# EAGLE library part BORNE-5-350-DUAL (library JLB6_Connec)
borne phoenixcontact 5 points a 3,5mm 186-1962
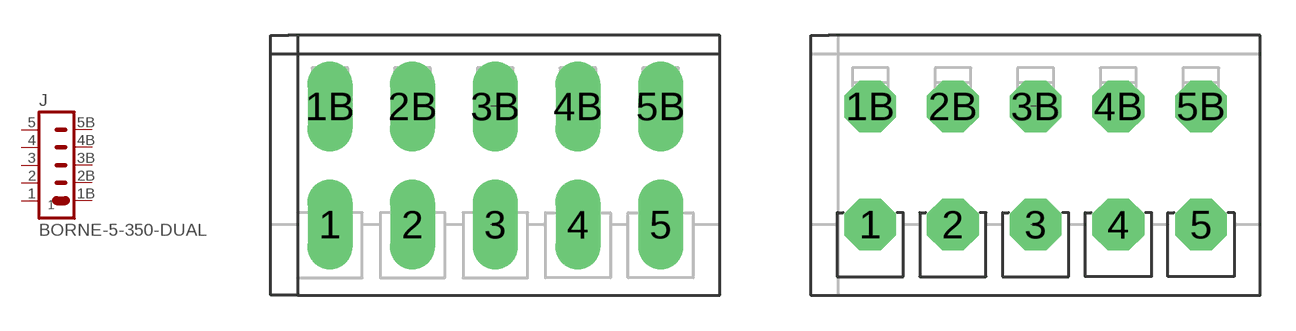
[diagram p52: symbol with the pads of BORNE-PHOENIX-5-350; footprints BORNE-PHOENIX-5-350, BORNE-PHOENIX-5-350-2]

Designator prefix J

## BORNE-5-350-DUAL1  [BORNE-PHOENIX-5-350]
1  1  pas
1B  1B  pas
2  2  pas
2B  2B  pas
3  3  pas
3B  3B  pas
4  4  pas
4B  4B  pas
5  5  pas
5B  5B  pas

## BORNE-5-350-DUAL2  [BORNE-PHOENIX-5-350-2]
Pads as for BORNE-PHOENIX-5-350

## BORNE-5-350-DUALMETZ  [BORNE-METZ-5-350-2]
Pads as for BORNE-PHOENIX-5-350

## Footprint BORNE-PHOENIX-5-350 (pad centres in mm)
drill 1.1 pad 1.905 long: 1 -7,-2.5; 1B -7,2.5; 2 -3.5,-2.5; 2B -3.5,2.5; 3 0,-2.5; 3B 0,2.5; 4 3.5,-2.5; 4B 3.5,2.5; 5 7,-2.5; 5B 7,2.5

## Footprint BORNE-PHOENIX-5-350-2 (pad centres in mm)
drill 1.1 pad 2.184 octagon: 1 -7,-2.5; 1B -7,2.5; 2 -3.5,-2.5; 2B -3.5,2.5; 3 0,-2.5; 3B 0,2.5; 4 3.5,-2.5; 4B 3.5,2.5; 5 7,-2.5; 5B 7,2.5

## Footprint BORNE-METZ-5-350-2 (pad centres in mm)
drill 1.2 pad 2.184 octagon: 1 -7,-2.5; 1B -7,2.5; 2 -3.5,-2.5; 2B -3.5,2.5; 3 0,-2.5; 3B 0,2.5; 4 3.5,-2.5; 4B 3.5,2.5; 5 7,-2.5; 5B 7,2.5